# Altium footprint library PCB Shunt 0.3mm x 20mm - 45mOhm on 36uM.PcbLib: 1 footprints
Each footprint in its own frame and in the unit in brackets; x right, y up, seen from the top. Pads: shape width x height; smd on the part's side, far side on the other; paste and mask are expansions set on the pad; w line width, h text height; cw(c..) or ccw(c..) is an arc to the next point about the centre after c.
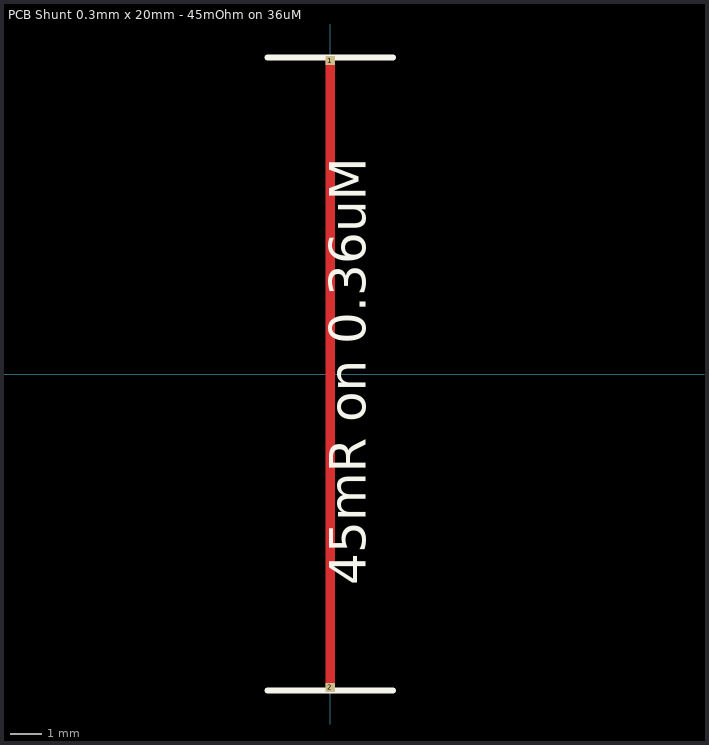
[diagram p0: the footprint, top view; thin cyan lines are the x and y axes]

## PCB Shunt 0.3mm x 20mm - 45mOhm on 36uM [mm]
pads (2):
  rect 0.3x0.3 smd paste-2539.97 mask+0.102: 1(0,10) 2(0,-10)
Top Layer:
  rectangle: -0.15,-10 0.15,10
Top Overlay:
  lines w0.2: -2,-10.1 2,-10.1 ; -2,10.1 2,10.1
  text "45mR on 0.36uM" at 1.506,-6.735 h2